# Altium schematic symbol library RT9166-33GX.SchLib: 1 symbol
Pins are listed as number, name and electrical type; pins without a type are passive.

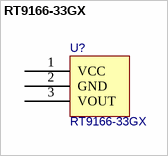
[diagram p0: symbol RT9166-33GX]

## RT9166-33GX
designator U?
Manufacturer: RICHTEK(立锜); Manufacturer Part: RT9058-33GX; Contributor: LCSC; Supplier: LCSC; Supplier Part: C250428; JLCPCB Part Class: Extended Part; link: https://lcsc.com/eda_search?q=C250428&%26type=1&ref=editor; spicePre: U; spiceSymbolName: RT9058-33GX
footprint SOT-89-3_L4.5-W2.5-P1.50-LS4.2-BR
pins: 1 VCC, 2 GND, 3 VOUT